# EAGLE library part FLASH (library Microchip)
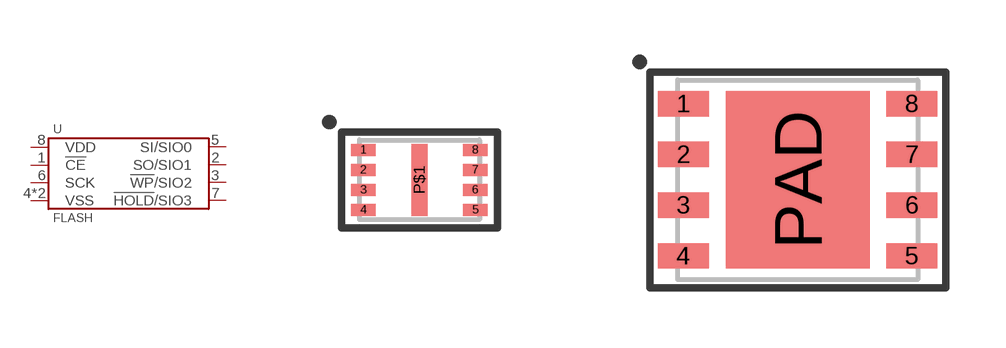
[diagram p19: symbol with the pads of USON-8-2X3; footprints USON-8-2X3, WSON-8-5X6]

Designator prefix U

## FLASH-USON  [USON-8-2X3]
1  !CE
2  SO/SIO1
3  !WP!/SIO2
4  VSS
5  SI/SIO0
6  SCK
7  !HOLD!/SIO3
8  VDD
P$1  VSS

## FLASH-WSON  [WSON-8-5X6]
1  !CE
2  SO/SIO1
3  !WP!/SIO2
4  VSS
5  SI/SIO0
6  SCK
7  !HOLD!/SIO3
8  VDD
PAD  VSS

## Footprint USON-8-2X3 (pad centres in mm)
smd 0.6 x 0.3: 1 -1.4,0.75; 2 -1.4,0.25; 3 -1.4,-0.25; 4 -1.4,-0.75; 5 1.4,-0.75; 6 1.4,-0.25; 7 1.4,0.25; 8 1.4,0.75
smd 0.4 x 1.8: P$1 0,0

## Footprint WSON-8-5X6 (pad centres in mm)
smd 1.27 x 0.635: 1 -2.857,1.905; 2 -2.857,0.635; 3 -2.857,-0.635; 4 -2.857,-1.905; 5 2.857,-1.905; 6 2.857,-0.635; 7 2.857,0.635; 8 2.857,1.905
smd 3.6 x 4.44: PAD 0,0